# Altium schematic symbol library inductors.SchLib: 27 symbols
Pins are listed as number, name and electrical type; pins without a type are passive.

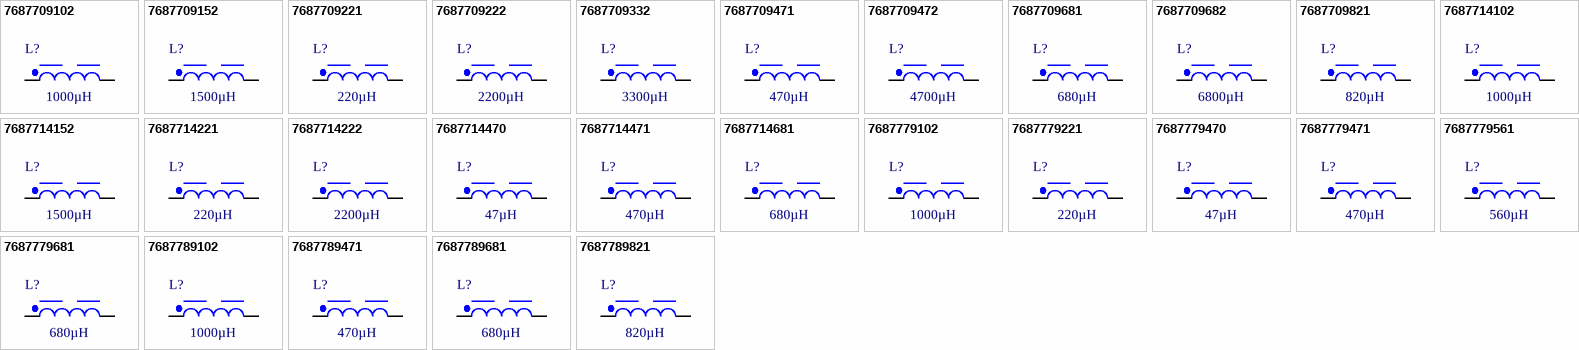
[diagram p0: symbols 7687709102 to 7687789821]

## 7687709102
designator L?, comment 1000µH
WE-PD HV High Voltage Power Inductor, SMT, size 1210, 1000µH, 0.72A, 1.4Ω; Manufacturer Part Number: 7687709102; Manufacturer: Wurth Elektronik; Case/Size Code: 1210; DC Resistance: 1.2Ω; Operating Voltage (DC): 400V; Saturation Current: 0.9A; Self Resonant Frequency: 1.2MHz; Category: Power Inductors; Match Code: WE-PD HV; ComponentLink1Description: Website Link; ComponentLink1URL: https://www.we-online.com/redexpert/article/7687709102?ad; ComponentLink2Description: Datasheet Link; ComponentLink2URL: https://www.we-online.com/redexpert/spec/7687709102?ad; Mount: Surface Mount; Min Operating Temperature: -40°C; Max Operating Temperature: 125°C; Packaging: Tape and Reel; Length: 12mm; Width: 12mm; Height: 10.5mm; DC Resistance Max: 1.4Ω; Inductance: 1000µH; Rated Current: 0.72A
footprint WE-PD HV_1210 (SMT High Voltage Power Inductor, 2-Leads, body 12.00x12.00mm)
simulation model 1210_7687709102_1000u
pins: 1, 2

## 7687709152
designator L?, comment 1500µH
WE-PD HV High Voltage Power Inductor, SMT, size 1210, 1500µH, 0.52A, 2.2Ω; Manufacturer Part Number: 7687709152; Manufacturer: Wurth Elektronik; Case/Size Code: 1210; DC Resistance: 1.9Ω; Operating Voltage (DC): 400V; Saturation Current: 0.8A; Self Resonant Frequency: 0.9MHz; Category: Power Inductors; Match Code: WE-PD HV; ComponentLink1Description: Website Link; ComponentLink1URL: https://www.we-online.com/redexpert/article/7687709152?ad; ComponentLink2Description: Datasheet Link; ComponentLink2URL: https://www.we-online.com/redexpert/spec/7687709152?ad; Mount: Surface Mount; Min Operating Temperature: -40°C; Max Operating Temperature: 125°C; Packaging: Tape and Reel; Length: 12mm; Width: 12mm; Height: 10.5mm; DC Resistance Max: 2.2Ω; Inductance: 1500µH; Rated Current: 0.52A
footprint WE-PD HV_1210 (SMT High Voltage Power Inductor, 2-Leads, body 12.00x12.00mm)
simulation model 1210_7687709152_1500u
pins: 1, 2

## 7687709221
designator L?, comment 220µH
WE-PD HV High Voltage Power Inductor, SMT, size 1210, 220µH, 1.3A, 0.35Ω; Manufacturer Part Number: 7687709221; Manufacturer: Wurth Elektronik; Case/Size Code: 1210; DC Resistance: 0.3Ω; Operating Voltage (DC): 400V; Saturation Current: 2A; Self Resonant Frequency: 2.2MHz; Category: Power Inductors; Match Code: WE-PD HV; ComponentLink1Description: Website Link; ComponentLink1URL: https://www.we-online.com/redexpert/article/7687709221?ad; ComponentLink2Description: Datasheet Link; ComponentLink2URL: https://www.we-online.com/redexpert/spec/7687709221?ad; Mount: Surface Mount; Min Operating Temperature: -40°C; Max Operating Temperature: 125°C; Packaging: Tape and Reel; Length: 12mm; Width: 12mm; Height: 10.5mm; DC Resistance Max: 0.35Ω; Inductance: 220µH; Rated Current: 1.3A
footprint WE-PD HV_1210
simulation model 1210_7687709221_220u
pins: 1, 2

## 7687709222
designator L?, comment 2200µH
WE-PD HV High Voltage Power Inductor, SMT, size 1210, 2200µH, 0.43A, 3.7Ω; Manufacturer Part Number: 7687709222; Manufacturer: Wurth Elektronik; Case/Size Code: 1210; DC Resistance: 3.1Ω; Operating Voltage (DC): 400V; Saturation Current: 0.65A; Self Resonant Frequency: 0.8MHz; Category: Power Inductors; Match Code: WE-PD HV; ComponentLink1Description: Website Link; ComponentLink1URL: https://www.we-online.com/redexpert/article/7687709222?ad; ComponentLink2Description: Datasheet Link; ComponentLink2URL: https://www.we-online.com/redexpert/spec/7687709222?ad; Mount: Surface Mount; Min Operating Temperature: -40°C; Max Operating Temperature: 125°C; Packaging: Tape and Reel; Length: 12mm; Width: 12mm; Height: 10.5mm; DC Resistance Max: 3.7Ω; Inductance: 2200µH; Rated Current: 0.43A
footprint WE-PD HV_1210
simulation model 1210_7687709222_2200u
pins: 1, 2

## 7687709332
designator L?, comment 3300µH
WE-PD HV High Voltage Power Inductor, SMT, size 1210, 3300µH, 0.37A, 5.2Ω; Manufacturer Part Number: 7687709332; Manufacturer: Wurth Elektronik; Case/Size Code: 1210; DC Resistance: 4.4Ω; Operating Voltage (DC): 400V; Saturation Current: 0.52A; Self Resonant Frequency: 0.6MHz; Category: Power Inductors; Match Code: WE-PD HV; ComponentLink1Description: Website Link; ComponentLink1URL: https://www.we-online.com/redexpert/article/7687709332?ad; ComponentLink2Description: Datasheet Link; ComponentLink2URL: https://www.we-online.com/redexpert/spec/7687709332?ad; Mount: Surface Mount; Min Operating Temperature: -40°C; Max Operating Temperature: 125°C; Packaging: Tape and Reel; Length: 12mm; Width: 12mm; Height: 10.5mm; DC Resistance Max: 5.2Ω; Inductance: 3300µH; Rated Current: 0.37A
footprint WE-PD HV_1210
simulation model 1210_7687709332_3300u
pins: 1, 2

## 7687709471
designator L?, comment 470µH
WE-PD HV High Voltage Power Inductor, SMT, size 1210, 470µH, 0.97A, 0.8Ω; Manufacturer Part Number: 7687709471; Manufacturer: Wurth Elektronik; Case/Size Code: 1210; DC Resistance: 0.68Ω; Operating Voltage (DC): 400V; Saturation Current: 1.4A; Self Resonant Frequency: 1.9MHz; Category: Power Inductors; Match Code: WE-PD HV; ComponentLink1Description: Website Link; ComponentLink1URL: https://www.we-online.com/redexpert/article/7687709471?ad; ComponentLink2Description: Datasheet Link; ComponentLink2URL: https://www.we-online.com/redexpert/spec/7687709471?ad; Mount: Surface Mount; Min Operating Temperature: -40°C; Max Operating Temperature: 125°C; Packaging: Tape and Reel; Length: 12mm; Width: 12mm; Height: 10.5mm; DC Resistance Max: 0.8Ω; Inductance: 470µH; Rated Current: 0.97A
footprint WE-PD HV_1210
simulation model 1210_7687709471_470u
pins: 1, 2

## 7687709472
designator L?, comment 4700µH
WE-PD HV High Voltage Power Inductor, SMT, size 1210, 4700µH, 0.3A, 7.8Ω; Manufacturer Part Number: 7687709472; Manufacturer: Wurth Elektronik; Case/Size Code: 1210; DC Resistance: 6.5Ω; Operating Voltage (DC): 400V; Saturation Current: 0.48A; Self Resonant Frequency: 0.5MHz; Category: Power Inductors; Match Code: WE-PD HV; ComponentLink1Description: Website Link; ComponentLink1URL: https://www.we-online.com/redexpert/article/7687709472?ad; ComponentLink2Description: Datasheet Link; ComponentLink2URL: https://www.we-online.com/redexpert/spec/7687709472?ad; Mount: Surface Mount; Min Operating Temperature: -40°C; Max Operating Temperature: 125°C; Packaging: Tape and Reel; Length: 12mm; Width: 12mm; Height: 10.5mm; DC Resistance Max: 7.8Ω; Inductance: 4700µH; Rated Current: 0.3A
footprint WE-PD HV_1210
simulation model 1210_7687709472_4700u
pins: 1, 2

## 7687709681
designator L?, comment 680µH
WE-PD HV High Voltage Power Inductor, SMT, size 1210, 680µH, 0.8A, 1.15Ω; Manufacturer Part Number: 7687709681; Manufacturer: Wurth Elektronik; Case/Size Code: 1210; DC Resistance: 0.95Ω; Operating Voltage (DC): 400V; Saturation Current: 1.2A; Self Resonant Frequency: 1.5MHz; Category: Power Inductors; Match Code: WE-PD HV; ComponentLink1Description: Website Link; ComponentLink1URL: https://www.we-online.com/redexpert/article/7687709681?ad; ComponentLink2Description: Datasheet Link; ComponentLink2URL: https://www.we-online.com/redexpert/spec/7687709681?ad; Mount: Surface Mount; Min Operating Temperature: -40°C; Max Operating Temperature: 125°C; Packaging: Tape and Reel; Length: 12mm; Width: 12mm; Height: 10.5mm; DC Resistance Max: 1.15Ω; Inductance: 680µH; Rated Current: 0.8A
footprint WE-PD HV_1210
simulation model 1210_7687709681_680u
pins: 1, 2

## 7687709682
designator L?, comment 6800µH
WE-PD HV High Voltage Power Inductor, SMT, size 1210, 6800µH, 0.28A, 9.6Ω; Manufacturer Part Number: 7687709682; Manufacturer: Wurth Elektronik; Case/Size Code: 1210; DC Resistance: 8Ω; Operating Voltage (DC): 400V; Saturation Current: 0.38A; Self Resonant Frequency: 0.45MHz; Category: Power Inductors; Match Code: WE-PD HV; ComponentLink1Description: Website Link; ComponentLink1URL: https://www.we-online.com/redexpert/article/7687709682?ad; ComponentLink2Description: Datasheet Link; ComponentLink2URL: https://www.we-online.com/redexpert/spec/7687709682?ad; Mount: Surface Mount; Min Operating Temperature: -40°C; Max Operating Temperature: 125°C; Packaging: Tape and Reel; Length: 12mm; Width: 12mm; Height: 10.5mm; DC Resistance Max: 9.6Ω; Inductance: 6800µH; Rated Current: 0.28A
footprint WE-PD HV_1210
simulation model 1210_7687709682_6800u
pins: 1, 2

## 7687709821
designator L?, comment 820µH
WE-PD HV High Voltage Power Inductor, SMT, size 1210, 820µH, 0.76A, 1.25Ω; Manufacturer Part Number: 7687709821; Manufacturer: Wurth Elektronik; Case/Size Code: 1210; Operating Voltage (DC): 400V; Saturation Current: 1.1A; Self Resonant Frequency: 1.4MHz; Category: Power Inductors; Match Code: WE-PD HV; ComponentLink1Description: Website Link; ComponentLink1URL: https://www.we-online.com/redexpert/article/7687709821?ad; ComponentLink2Description: Datasheet Link; ComponentLink2URL: https://www.we-online.com/redexpert/spec/7687709821?ad; Mount: Surface Mount; Min Operating Temperature: -40°C; Max Operating Temperature: 125°C; Packaging: Tape and Reel; Length: 12mm; Width: 12mm; Height: 10.5mm; DC Resistance Max: 1.25Ω; Inductance: 820µH; Rated Current: 0.76A
footprint WE-PD HV_1210
simulation model 1210_7687709821_820u
pins: 1, 2

## 7687714102
designator L?, comment 1000µH
WE-PD HV High Voltage Power Inductor, SMT, size 1060, 1000µH, 0.4A, 3.2Ω; Manufacturer Part Number: 7687714102; Manufacturer: Wurth Elektronik; Case/Size Code: 1060; DC Resistance: 2.7Ω; Operating Voltage (DC): 400V; Saturation Current: 0.55A; Self Resonant Frequency: 1.7MHz; Category: Power Inductors; Match Code: WE-PD HV; ComponentLink1Description: Website Link; ComponentLink1URL: https://www.we-online.com/redexpert/article/7687714102?ad; ComponentLink2Description: Datasheet Link; ComponentLink2URL: https://www.we-online.com/redexpert/spec/7687714102?ad; Mount: Surface Mount; Min Operating Temperature: -40°C; Max Operating Temperature: 125°C; Packaging: Tape and Reel; Length: 10mm; Width: 10mm; Height: 6mm; DC Resistance Max: 3.2Ω; Inductance: 1000µH; Rated Current: 0.4A
footprint WE-PD HV_1060
simulation model 1060_7687714102_1000u
pins: 1, 2

## 7687714152
designator L?, comment 1500µH
WE-PD HV High Voltage Power Inductor, SMT, size 1060, 1500µH, 0.32A, 4.6Ω; Manufacturer Part Number: 7687714152; Manufacturer: Wurth Elektronik; Case/Size Code: 1060; DC Resistance: 3.8Ω; Operating Voltage (DC): 400V; Saturation Current: 0.46A; Self Resonant Frequency: 1.4MHz; Category: Power Inductors; Match Code: WE-PD HV; ComponentLink1Description: Website Link; ComponentLink1URL: https://www.we-online.com/redexpert/article/7687714152?ad; ComponentLink2Description: Datasheet Link; ComponentLink2URL: https://www.we-online.com/redexpert/spec/7687714152?ad; Mount: Surface Mount; Min Operating Temperature: -40°C; Max Operating Temperature: 125°C; Packaging: Tape and Reel; Length: 10mm; Width: 10mm; Height: 6mm; DC Resistance Max: 4.6Ω; Inductance: 1500µH; Rated Current: 0.32A
footprint WE-PD HV_1060
simulation model 1060_7687714152_1500u
pins: 1, 2

## 7687714221
designator L?, comment 220µH
WE-PD HV High Voltage Power Inductor, SMT, size 1060, 220µH, 0.95A, 0.68Ω; Manufacturer Part Number: 7687714221; Manufacturer: Wurth Elektronik; Case/Size Code: 1060; DC Resistance: 0.57Ω; Operating Voltage (DC): 400V; Saturation Current: 1.15A; Self Resonant Frequency: 3.9MHz; Category: Power Inductors; Match Code: WE-PD HV; ComponentLink1Description: Website Link; ComponentLink1URL: https://www.we-online.com/redexpert/article/7687714221?ad; ComponentLink2Description: Datasheet Link; ComponentLink2URL: https://www.we-online.com/redexpert/spec/7687714221?ad; Mount: Surface Mount; Min Operating Temperature: -40°C; Max Operating Temperature: 125°C; Packaging: Tape and Reel; Length: 10mm; Width: 10mm; Height: 6mm; DC Resistance Max: 0.68Ω; Inductance: 220µH; Rated Current: 0.95A
footprint WE-PD HV_1060
simulation model 1060_7687714221_220u
pins: 1, 2

## 7687714222
designator L?, comment 2200µH
WE-PD HV High Voltage Power Inductor, SMT, size 1060, 2200µH, 0.26A, 6.5Ω; Manufacturer Part Number: 7687714222; Manufacturer: Wurth Elektronik; Case/Size Code: 1060; DC Resistance: 5.5Ω; Operating Voltage (DC): 400V; Saturation Current: 0.37A; Self Resonant Frequency: 1.2MHz; Category: Power Inductors; Match Code: WE-PD HV; ComponentLink1Description: Website Link; ComponentLink1URL: https://www.we-online.com/redexpert/article/7687714222?ad; ComponentLink2Description: Datasheet Link; ComponentLink2URL: https://www.we-online.com/redexpert/spec/7687714222?ad; Mount: Surface Mount; Min Operating Temperature: -40°C; Max Operating Temperature: 125°C; Packaging: Tape and Reel; Length: 10mm; Width: 10mm; Height: 6mm; DC Resistance Max: 6.5Ω; Inductance: 2200µH; Rated Current: 0.26A
footprint WE-PD HV_1060
simulation model 1060_7687714222_2200u
pins: 1, 2

## 7687714470
designator L?, comment 47µH
WE-PD HV High Voltage Power Inductor, SMT, size 1060, 47µH, 1.7A, 0.156Ω; Manufacturer Part Number: 7687714470; Manufacturer: Wurth Elektronik; Case/Size Code: 1060; DC Resistance: 0.13Ω; Operating Voltage (DC): 400V; Saturation Current: 2.3A; Self Resonant Frequency: 10.2MHz; Category: Power Inductors; Match Code: WE-PD HV; ComponentLink1Description: Website Link; ComponentLink1URL: https://www.we-online.com/redexpert/article/7687714470?ad; ComponentLink2Description: Datasheet Link; ComponentLink2URL: https://www.we-online.com/redexpert/spec/7687714470?ad; Mount: Surface Mount; Min Operating Temperature: -40°C; Max Operating Temperature: 125°C; Packaging: Tape and Reel; Length: 10mm; Width: 10mm; Height: 6mm; DC Resistance Max: 0.156Ω; Inductance: 47µH; Rated Current: 1.7A
footprint WE-PD HV_1060
simulation model 1060_7687714470_47u
pins: 1, 2

## 7687714471
designator L?, comment 470µH
WE-PD HV High Voltage Power Inductor, SMT, size 1060, 470µH, 0.6A, 1.45Ω; Manufacturer Part Number: 7687714471; Manufacturer: Wurth Elektronik; Case/Size Code: 1060; DC Resistance: 1.25Ω; Operating Voltage (DC): 400V; Saturation Current: 0.8A; Self Resonant Frequency: 2.7MHz; Category: Power Inductors; Match Code: WE-PD HV; ComponentLink1Description: Website Link; ComponentLink1URL: https://www.we-online.com/redexpert/article/7687714471?ad; ComponentLink2Description: Datasheet Link; ComponentLink2URL: https://www.we-online.com/redexpert/spec/7687714471?ad; Mount: Surface Mount; Min Operating Temperature: -40°C; Max Operating Temperature: 125°C; Packaging: Tape and Reel; Length: 10mm; Width: 10mm; Height: 6mm; DC Resistance Max: 1.45Ω; Inductance: 470µH; Rated Current: 0.6A
footprint WE-PD HV_1060
simulation model 1060_7687714471_470u
pins: 1, 2

## 7687714681
designator L?, comment 680µH
WE-PD HV High Voltage Power Inductor, SMT, size 1060, 680µH, 0.55A, 2.25Ω; Manufacturer Part Number: 7687714681; Manufacturer: Wurth Elektronik; Case/Size Code: 1060; DC Resistance: 1.9Ω; Operating Voltage (DC): 400V; Saturation Current: 0.61A; Self Resonant Frequency: 2MHz; Category: Power Inductors; Match Code: WE-PD HV; ComponentLink1Description: Website Link; ComponentLink1URL: https://www.we-online.com/redexpert/article/7687714681?ad; ComponentLink2Description: Datasheet Link; ComponentLink2URL: https://www.we-online.com/redexpert/spec/7687714681?ad; Mount: Surface Mount; Min Operating Temperature: -40°C; Max Operating Temperature: 125°C; Packaging: Tape and Reel; Length: 10mm; Width: 10mm; Height: 6mm; DC Resistance Max: 2.25Ω; Inductance: 680µH; Rated Current: 0.55A
footprint WE-PD HV_1060
simulation model 1060_7687714681_680u
pins: 1, 2

## 7687779102
designator L?, comment 1000µH
WE-PD HV High Voltage Power Inductor, SMT, size 7345, 1000µH, 0.24A, 6Ω; Manufacturer Part Number: 7687779102; Manufacturer: Wurth Elektronik; Case/Size Code: 7345; DC Resistance: 5.1Ω; Operating Voltage (DC): 400V; Saturation Current: 0.25A; Self Resonant Frequency: 2.3MHz; Category: Power Inductors; Match Code: WE-PD HV; ComponentLink1Description: Website Link; ComponentLink1URL: https://www.we-online.com/redexpert/article/7687779102?ad; ComponentLink2Description: Datasheet Link; ComponentLink2URL: https://www.we-online.com/redexpert/spec/7687779102?ad; Mount: Surface Mount; Min Operating Temperature: -40°C; Max Operating Temperature: 125°C; Packaging: Tape and Reel; Length: 7.3mm; Width: 7.3mm; Height: 4.5mm; DC Resistance Max: 6Ω; Inductance: 1000µH; Rated Current: 0.24A
footprint WE-PD HV_7345
simulation model 7345_7687779102_1000u
pins: 1, 2

## 7687779221
designator L?, comment 220µH
WE-PD HV High Voltage Power Inductor, SMT, size 7345, 220µH, 0.56A, 1.3Ω; Manufacturer Part Number: 7687779221; Manufacturer: Wurth Elektronik; Case/Size Code: 7345; DC Resistance: 1.1Ω; Operating Voltage (DC): 400V; Saturation Current: 0.5A; Self Resonant Frequency: 4.9MHz; Category: Power Inductors; Match Code: WE-PD HV; ComponentLink1Description: Website Link; ComponentLink1URL: https://www.we-online.com/redexpert/article/7687779221?ad; ComponentLink2Description: Datasheet Link; ComponentLink2URL: https://www.we-online.com/redexpert/spec/7687779221?ad; Mount: Surface Mount; Min Operating Temperature: -40°C; Max Operating Temperature: 125°C; Packaging: Tape and Reel; Length: 7.3mm; Width: 7.3mm; Height: 4.5mm; DC Resistance Max: 1.3Ω; Inductance: 220µH; Rated Current: 0.56A
footprint WE-PD HV_7345
simulation model 7345_7687779221_220u
pins: 1, 2

## 7687779470
designator L?, comment 47µH
WE-PD HV High Voltage Power Inductor, SMT, size 7345, 47µH, 1A, 0.28Ω; Manufacturer Part Number: 7687779470; Manufacturer: Wurth Elektronik; Case/Size Code: 7345; DC Resistance: 0.24Ω; Operating Voltage (DC): 400V; Saturation Current: 1.1A; Self Resonant Frequency: 11.3MHz; Category: Power Inductors; Match Code: WE-PD HV; ComponentLink1Description: Website Link; ComponentLink1URL: https://www.we-online.com/redexpert/article/7687779470?ad; ComponentLink2Description: Datasheet Link; ComponentLink2URL: https://www.we-online.com/redexpert/spec/7687779470?ad; Mount: Surface Mount; Min Operating Temperature: -40°C; Max Operating Temperature: 125°C; Packaging: Tape and Reel; Length: 7.3mm; Width: 7.3mm; Height: 4.5mm; DC Resistance Max: 0.28Ω; Inductance: 47µH; Rated Current: 1A
footprint WE-PD HV_7345
simulation model 7345_7687779470_47u
pins: 1, 2

## 7687779471
designator L?, comment 470µH
WE-PD HV High Voltage Power Inductor, SMT, size 7345, 470µH, 0.35A, 3.2Ω; Manufacturer Part Number: 7687779471; Manufacturer: Wurth Elektronik; Case/Size Code: 7345; DC Resistance: 2.7Ω; Operating Voltage (DC): 400V; Saturation Current: 0.37A; Self Resonant Frequency: 3MHz; Category: Power Inductors; Match Code: WE-PD HV; ComponentLink1Description: Website Link; ComponentLink1URL: https://www.we-online.com/redexpert/article/7687779471?ad; ComponentLink2Description: Datasheet Link; ComponentLink2URL: https://www.we-online.com/redexpert/spec/7687779471?ad; Mount: Surface Mount; Min Operating Temperature: -40°C; Max Operating Temperature: 125°C; Packaging: Tape and Reel; Length: 7.3mm; Width: 7.3mm; Height: 4.5mm; DC Resistance Max: 3.2Ω; Inductance: 470µH; Rated Current: 0.35A
footprint WE-PD HV_7345 (SMT High Voltage Power Inductor, 2-Leads, body 7.30x7.30mm)
simulation model 7345_7687779471_470u
pins: 1, 2

## 7687779561
designator L?, comment 560µH
WE-PD HV High Voltage Power Inductor, SMT, size 7345, 560µH, 0.33A, 3.6Ω; Manufacturer Part Number: 7687779561; Manufacturer: Wurth Elektronik; Case/Size Code: 7345; DC Resistance: 3Ω; Operating Voltage (DC): 400V; Saturation Current: 0.35A; Self Resonant Frequency: 2.9MHz; Category: Power Inductors; Match Code: WE-PD HV; ComponentLink1Description: Website Link; ComponentLink1URL: https://www.we-online.com/redexpert/article/7687779561?ad; ComponentLink2Description: Datasheet Link; ComponentLink2URL: https://www.we-online.com/redexpert/spec/7687779561?ad; Mount: Surface Mount; Min Operating Temperature: -40°C; Max Operating Temperature: 125°C; Packaging: Tape and Reel; Length: 7.3mm; Width: 7.3mm; Height: 4.5mm; DC Resistance Max: 3.6Ω; Inductance: 560µH; Rated Current: 0.33A
footprint WE-PD HV_7345
simulation model 7345_7687779561_560u
pins: 1, 2

## 7687779681
designator L?, comment 680µH
WE-PD HV High Voltage Power Inductor, SMT, size 7345, 680µH, 0.3A, 4Ω; Manufacturer Part Number: 7687779681; Manufacturer: Wurth Elektronik; Case/Size Code: 7345; DC Resistance: 3.4Ω; Operating Voltage (DC): 400V; Self Resonant Frequency: 2.8MHz; Category: Power Inductors; Match Code: WE-PD HV; ComponentLink1Description: Website Link; ComponentLink1URL: https://www.we-online.com/redexpert/article/7687779681?ad; ComponentLink2Description: Datasheet Link; ComponentLink2URL: https://www.we-online.com/redexpert/spec/7687779681?ad; Mount: Surface Mount; Min Operating Temperature: -40°C; Max Operating Temperature: 125°C; Packaging: Tape and Reel; Length: 7.3mm; Width: 7.3mm; Height: 4.5mm; DC Resistance Max: 4Ω; Inductance: 680µH; Rated Current: 0.3A; Saturation Current: 0.3A
footprint WE-PD HV_7345
simulation model 7345_7687779681_680u
pins: 1, 2

## 7687789102
designator L?, comment 1000µH
WE-PD HV High Voltage Power Inductor, SMT, size 7332, 1000µH, 0.17A, 9Ω; Manufacturer Part Number: 7687789102; Manufacturer: Wurth Elektronik; Case/Size Code: 7332; Operating Voltage (DC): 400V; Saturation Current: 0.2A; Self Resonant Frequency: 2.5MHz; Category: Power Inductors; Match Code: WE-PD HV; ComponentLink1Description: Website Link; ComponentLink1URL: https://www.we-online.com/redexpert/article/7687789102?ad; ComponentLink2Description: Datasheet Link; ComponentLink2URL: https://www.we-online.com/redexpert/spec/7687789102?ad; Mount: Surface Mount; Min Operating Temperature: -40°C; Max Operating Temperature: 125°C; Packaging: Tape and Reel; Length: 3.2mm; Width: 7.3mm; Height: 1.5mm; DC Resistance Max: 9Ω; Inductance: 1000µH; Rated Current: 0.17A
footprint WE-PD HV_7332
simulation model 7332_7687789102_1000u
pins: 1, 2

## 7687789471
designator L?, comment 470µH
WE-PD HV High Voltage Power Inductor, SMT, size 7332, 470µH, 0.25A, 3.5Ω; Manufacturer Part Number: 7687789471; Manufacturer: Wurth Elektronik; Case/Size Code: 7332; Operating Voltage (DC): 400V; Saturation Current: 0.35A; Self Resonant Frequency: 4.9MHz; Category: Power Inductors; Match Code: WE-PD HV; ComponentLink1Description: Website Link; ComponentLink1URL: https://www.we-online.com/redexpert/article/7687789471?ad; ComponentLink2Description: Datasheet Link; ComponentLink2URL: https://www.we-online.com/redexpert/spec/7687789471?ad; Mount: Surface Mount; Min Operating Temperature: -40°C; Max Operating Temperature: 125°C; Packaging: Tape and Reel; Length: 3.2mm; Width: 7.3mm; Height: 1.5mm; DC Resistance Max: 3.5Ω; Inductance: 470µH; Rated Current: 0.25A
footprint WE-PD HV_7332
simulation model 7332_7687789471_470u
pins: 1, 2

## 7687789681
designator L?, comment 680µH
WE-PD HV High Voltage Power Inductor, SMT, size 7332, 680µH, 0.22A, 5.2Ω; Manufacturer Part Number: 7687789681; Manufacturer: Wurth Elektronik; Case/Size Code: 7332; Operating Voltage (DC): 400V; Saturation Current: 0.26A; Self Resonant Frequency: 3.5MHz; Category: Power Inductors; Match Code: WE-PD HV; ComponentLink1Description: Website Link; ComponentLink1URL: https://www.we-online.com/redexpert/article/7687789681?ad; ComponentLink2Description: Datasheet Link; ComponentLink2URL: https://www.we-online.com/redexpert/spec/7687789681?ad; Mount: Surface Mount; Min Operating Temperature: -40°C; Max Operating Temperature: 125°C; Packaging: Tape and Reel; Length: 3.2mm; Width: 7.3mm; Height: 1.5mm; DC Resistance Max: 5.2Ω; Inductance: 680µH; Rated Current: 0.22A
footprint WE-PD HV_7332
simulation model 7332_7687789681_680u
pins: 1, 2

## 7687789821
designator L?, comment 820µH
WE-PD HV High Voltage Power Inductor, SMT, size 7332, 820µH, 0.18A, 8.2Ω; Manufacturer Part Number: 7687789821; Manufacturer: Wurth Elektronik; Case/Size Code: 7332; Operating Voltage (DC): 400V; Saturation Current: 0.23A; Self Resonant Frequency: 3.3MHz; Category: Power Inductors; Match Code: WE-PD HV; ComponentLink1Description: Website Link; ComponentLink1URL: https://www.we-online.com/redexpert/article/7687789821?ad; ComponentLink2Description: Datasheet Link; ComponentLink2URL: https://www.we-online.com/redexpert/spec/7687789821?ad; Mount: Surface Mount; Min Operating Temperature: -40°C; Max Operating Temperature: 125°C; Packaging: Tape and Reel; Length: 3.2mm; Width: 7.3mm; Height: 1.5mm; DC Resistance Max: 8.2Ω; Inductance: 820µH; Rated Current: 0.18A
footprint WE-PD HV_7332
simulation model 7332_7687789821_820u
pins: 1, 2